# EAGLE library part MCP41X1 (library 23K_candrian)
Digital Potentiometer
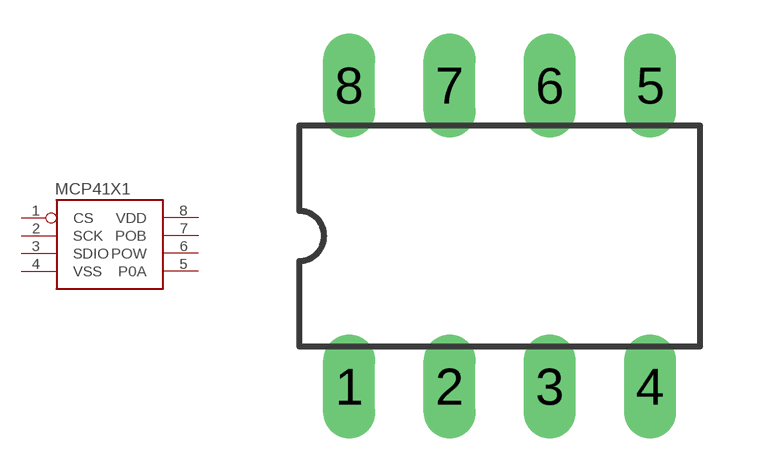
[diagram p18: symbol with the pads of DIL08; footprint DIL08]

Designator prefix IC

## MCP41X1  [DIL08]
1  CS
2  SCK
3  SDIO
4  VSS
5  P0A
6  POW
7  POB
8  VDD

## Footprint DIL08 (pad centres in mm)
drill 0.813 long: 1 -3.81,-3.81; 2 -1.27,-3.81; 3 1.27,-3.81; 4 3.81,-3.81; 5 3.81,3.81; 6 1.27,3.81; 7 -1.27,3.81; 8 -3.81,3.81